# Altium schematic symbol library WR-FPC.SchLib: 258 symbols (part 2 of 6)
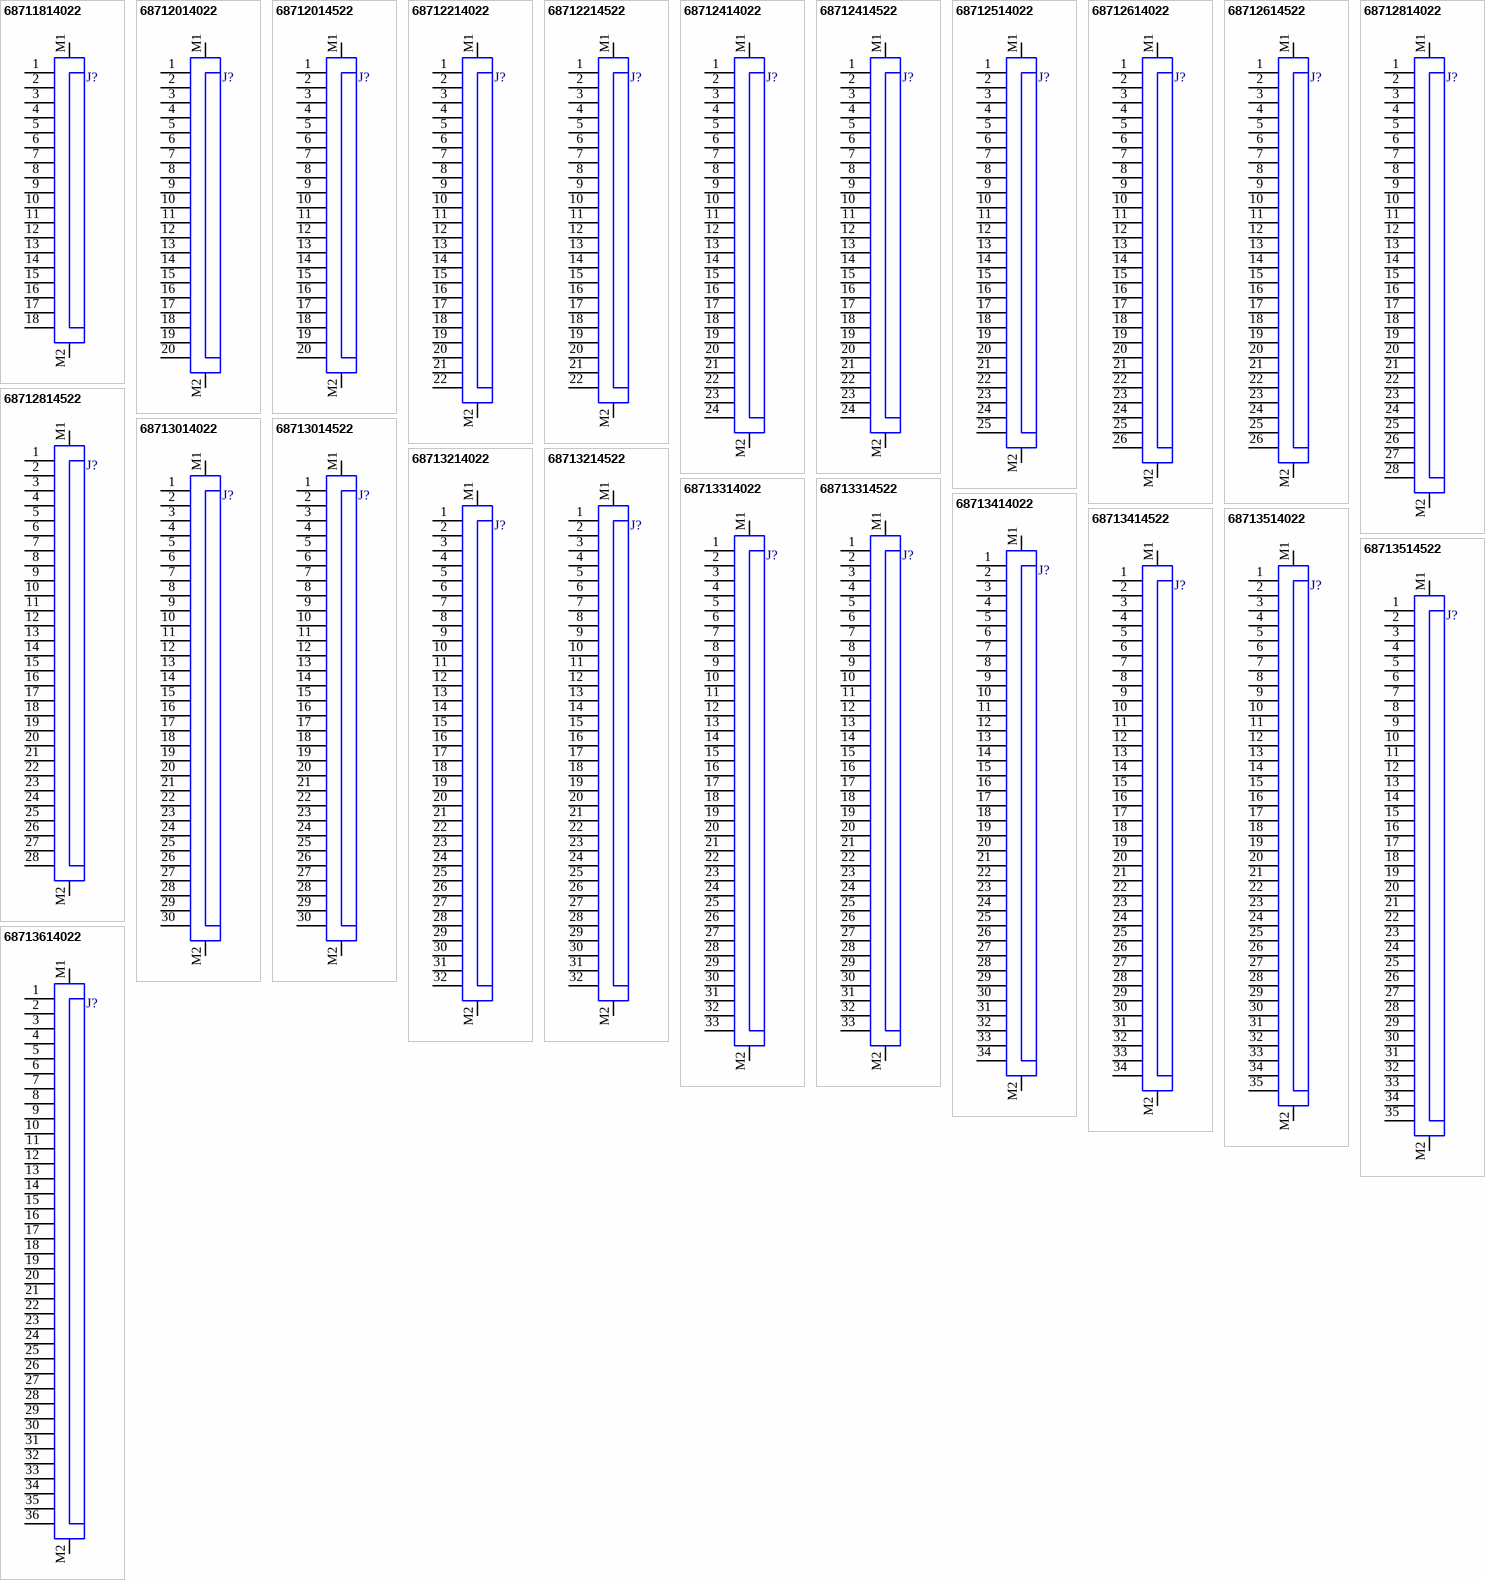
[diagram p8: symbols 68711814022 to 68713614022]

## 68712814022
designator J?  (value not drawn)
WR-FPC SMT ZIF Horizontal Top Contact, pitch 0.5mm, Horizontal, 28pins; Manufacturer: Wurth Elektronik; Contact Resistance: 20mΩ; Rated Current: 0.5A; Working Voltage: 50VAC; Withstanding Voltage: 1000VAC; ComponentLink1Description: Datasheet; ComponentLink1URL: https://www.we-online.com/redexpert/spec/68712814022?ad; Manufacturer Part Number: 68712814022; Category: FPC Connectors; Mount: Surface Mount; Operating Temperature Max: 85°C; Operating Temperature Min: -25°C; Packaging: Tape and Reel; Length: 20.4mm; Width: 5.1mm; Height: 2.1mm; Number of Pins: 28; Orientation: Horizontal; Pitch: 0.5mm; LCSC Part #: N/A; Supplier 1: Mouser; Supplier 1 Part Number: N/A; Supplier 1 URL: N/A; Supplier 2: Digi-Key; Supplier 2 Part Number: N/A; Supplier 2 URL: N/A; Supplier 3: thegioiic; Supplier 3 Part Number: N/A; Supplier 3 URL: N/A; Value: 68712814022
footprint 68712814022
pins: 1, 2, 3, 4, 5, 6, 7, 8, 9, 10, 11, 12, 13, 14, 15, 16, 17, 18, 19, 20, 21, 22, 23, 24, 25, 26, 27, 28, M1, M2

## 68712814522
designator J?  (value not drawn)
WR-FPC SMT ZIF Horizontal Bottom Contact, pitch 0.5mm, Horizontal, 28pins; Manufacturer: Wurth Elektronik; Contact Resistance: 20mΩ; Rated Current: 0.5A; Working Voltage: 50VAC; Withstanding Voltage: 1000VAC; ComponentLink1Description: Datasheet; ComponentLink1URL: https://www.we-online.com/redexpert/spec/68712814522?ad; Manufacturer Part Number: 68712814522; Category: FPC Connectors; Mount: Surface Mount; Operating Temperature Max: 85°C; Operating Temperature Min: -25°C; Packaging: Tape and Reel; Length: 20.4mm; Width: 5.1mm; Height: 2.1mm; Number of Pins: 28; Orientation: Horizontal; Pitch: 0.5mm; LCSC Part #: N/A; Supplier 1: Mouser; Supplier 1 Part Number: N/A; Supplier 1 URL: N/A; Supplier 2: Digi-Key; Supplier 2 Part Number: N/A; Supplier 2 URL: N/A; Supplier 3: thegioiic; Supplier 3 Part Number: N/A; Supplier 3 URL: N/A; Value: 68712814522
footprint 68712814522
pins: 1, 2, 3, 4, 5, 6, 7, 8, 9, 10, 11, 12, 13, 14, 15, 16, 17, 18, 19, 20, 21, 22, 23, 24, 25, 26, 27, 28, M1, M2

## 68713014022
designator J?  (value not drawn)
WR-FPC SMT ZIF Horizontal Top Contact, pitch 0.5mm, Horizontal, 30pins; Manufacturer: Wurth Elektronik; Contact Resistance: 20mΩ; Rated Current: 0.5A; Working Voltage: 50VAC; Withstanding Voltage: 1000VAC; ComponentLink1Description: Datasheet; ComponentLink1URL: https://www.we-online.com/redexpert/spec/68713014022?ad; Manufacturer Part Number: 68713014022; Category: FPC Connectors; Mount: Surface Mount; Operating Temperature Max: 85°C; Operating Temperature Min: -25°C; Packaging: Tape and Reel; Length: 21.4mm; Width: 5.1mm; Height: 2.1mm; Number of Pins: 30; Orientation: Horizontal; Pitch: 0.5mm; LCSC Part #: N/A; Supplier 1: Mouser; Supplier 1 Part Number: N/A; Supplier 1 URL: N/A; Supplier 2: Digi-Key; Supplier 2 Part Number: N/A; Supplier 2 URL: N/A; Supplier 3: thegioiic; Supplier 3 Part Number: N/A; Supplier 3 URL: N/A; Value: 68713014022
footprint 68713014022
pins: 1, 2, 3, 4, 5, 6, 7, 8, 9, 10, 11, 12, 13, 14, 15, 16, 17, 18, 19, 20, 21, 22, 23, 24, 25, 26, 27, 28, 29, 30, M1, M2

## 68713014522
designator J?  (value not drawn)
WR-FPC SMT ZIF Horizontal Bottom Contact, pitch 0.5mm, Horizontal, 30pins; Manufacturer: Wurth Elektronik; Contact Resistance: 20mΩ; Rated Current: 0.5A; Working Voltage: 50VAC; Withstanding Voltage: 1000VAC; ComponentLink1Description: Datasheet; ComponentLink1URL: https://www.we-online.com/redexpert/spec/68713014522?ad; Manufacturer Part Number: 68713014522; Category: FPC Connectors; Mount: Surface Mount; Operating Temperature Max: 85°C; Operating Temperature Min: -25°C; Packaging: Tape and Reel; Length: 21.4mm; Width: 5.1mm; Height: 2.1mm; Number of Pins: 30; Orientation: Horizontal; Pitch: 0.5mm; LCSC Part #: N/A; Supplier 1: Mouser; Supplier 1 Part Number: N/A; Supplier 1 URL: N/A; Supplier 2: Digi-Key; Supplier 2 Part Number: N/A; Supplier 2 URL: N/A; Supplier 3: thegioiic; Supplier 3 Part Number: N/A; Supplier 3 URL: N/A; Value: 68713014522
footprint 68713014522
pins: 1, 2, 3, 4, 5, 6, 7, 8, 9, 10, 11, 12, 13, 14, 15, 16, 17, 18, 19, 20, 21, 22, 23, 24, 25, 26, 27, 28, 29, 30, M1, M2

## 68713214022
designator J?  (value not drawn)
WR-FPC SMT ZIF Horizontal Top Contact, pitch 0.5mm, Horizontal, 32pins; Manufacturer: Wurth Elektronik; Contact Resistance: 20mΩ; Rated Current: 0.5A; Working Voltage: 50VAC; Withstanding Voltage: 1000VAC; ComponentLink1Description: Datasheet; ComponentLink1URL: https://www.we-online.com/redexpert/spec/68713214022?ad; Manufacturer Part Number: 68713214022; Category: FPC Connectors; Mount: Surface Mount; Operating Temperature Max: 85°C; Operating Temperature Min: -25°C; Packaging: Tape and Reel; Length: 22.4mm; Width: 5.1mm; Height: 2.1mm; Number of Pins: 32; Orientation: Horizontal; Pitch: 0.5mm; LCSC Part #: N/A; Supplier 1: Mouser; Supplier 1 Part Number: N/A; Supplier 1 URL: N/A; Supplier 2: Digi-Key; Supplier 2 Part Number: N/A; Supplier 2 URL: N/A; Supplier 3: thegioiic; Supplier 3 Part Number: N/A; Supplier 3 URL: N/A; Value: 68713214022
footprint 68713214022
pins: 1, 2, 3, 4, 5, 6, 7, 8, 9, 10, 11, 12, 13, 14, 15, 16, 17, 18, 19, 20, 21, 22, 23, 24, 25, 26, 27, 28, 29, 30, 31, 32, M1, M2

## 68713214522
designator J?  (value not drawn)
WR-FPC SMT ZIF Horizontal Bottom Contact, pitch 0.5mm, Horizontal, 32pins; Manufacturer: Wurth Elektronik; Contact Resistance: 20mΩ; Rated Current: 0.5A; Working Voltage: 50VAC; Withstanding Voltage: 1000VAC; ComponentLink1Description: Datasheet; ComponentLink1URL: https://www.we-online.com/redexpert/spec/68713214522?ad; Manufacturer Part Number: 68713214522; Category: FPC Connectors; Mount: Surface Mount; Operating Temperature Max: 85°C; Operating Temperature Min: -25°C; Packaging: Tape and Reel; Length: 22.4mm; Width: 5.1mm; Height: 2.1mm; Number of Pins: 32; Orientation: Horizontal; Pitch: 0.5mm; LCSC Part #: N/A; Supplier 1: Mouser; Supplier 1 Part Number: N/A; Supplier 1 URL: N/A; Supplier 2: Digi-Key; Supplier 2 Part Number: N/A; Supplier 2 URL: N/A; Supplier 3: thegioiic; Supplier 3 Part Number: N/A; Supplier 3 URL: N/A; Value: 68713214522
footprint 68713214522
pins: 1, 2, 3, 4, 5, 6, 7, 8, 9, 10, 11, 12, 13, 14, 15, 16, 17, 18, 19, 20, 21, 22, 23, 24, 25, 26, 27, 28, 29, 30, 31, 32, M1, M2

## 68713314022
designator J?  (value not drawn)
WR-FPC SMT ZIF Horizontal Top Contact, pitch 0.5mm, Horizontal, 33pins; Manufacturer: Wurth Elektronik; Contact Resistance: 20mΩ; Rated Current: 0.5A; Working Voltage: 50VAC; Withstanding Voltage: 1000VAC; ComponentLink1Description: Datasheet; ComponentLink1URL: https://www.we-online.com/redexpert/spec/68713314022?ad; Manufacturer Part Number: 68713314022; Category: FPC Connectors; Mount: Surface Mount; Operating Temperature Max: 85°C; Operating Temperature Min: -25°C; Packaging: Tape and Reel; Length: 22.9mm; Width: 5.1mm; Height: 2.1mm; Number of Pins: 33; Orientation: Horizontal; Pitch: 0.5mm; LCSC Part #: N/A; Supplier 1: Mouser; Supplier 1 Part Number: N/A; Supplier 1 URL: N/A; Supplier 2: Digi-Key; Supplier 2 Part Number: N/A; Supplier 2 URL: N/A; Supplier 3: thegioiic; Supplier 3 Part Number: N/A; Supplier 3 URL: N/A; Value: 68713314022
footprint 68713314022
pins: 1, 2, 3, 4, 5, 6, 7, 8, 9, 10, 11, 12, 13, 14, 15, 16, 17, 18, 19, 20, 21, 22, 23, 24, 25, 26, 27, 28, 29, 30, 31, 32, 33, M1, M2

## 68713314522
designator J?  (value not drawn)
WR-FPC SMT ZIF Horizontal Bottom Contact, pitch 0.5mm, Horizontal, 33pins; Manufacturer: Wurth Elektronik; Contact Resistance: 20mΩ; Rated Current: 0.5A; Working Voltage: 50VAC; Withstanding Voltage: 1000VAC; ComponentLink1Description: Datasheet; ComponentLink1URL: https://www.we-online.com/redexpert/spec/68713314522?ad; Manufacturer Part Number: 68713314522; Category: FPC Connectors; Mount: Surface Mount; Operating Temperature Max: 85°C; Operating Temperature Min: -25°C; Packaging: Tape and Reel; Length: 22.9mm; Width: 5.1mm; Height: 2.1mm; Number of Pins: 33; Orientation: Horizontal; Pitch: 0.5mm; LCSC Part #: N/A; Supplier 1: Mouser; Supplier 1 Part Number: N/A; Supplier 1 URL: N/A; Supplier 2: Digi-Key; Supplier 2 Part Number: N/A; Supplier 2 URL: N/A; Supplier 3: thegioiic; Supplier 3 Part Number: N/A; Supplier 3 URL: N/A; Value: 68713314522
footprint 68713314522
pins: 1, 2, 3, 4, 5, 6, 7, 8, 9, 10, 11, 12, 13, 14, 15, 16, 17, 18, 19, 20, 21, 22, 23, 24, 25, 26, 27, 28, 29, 30, 31, 32, 33, M1, M2

## 68713414022
designator J?  (value not drawn)
WR-FPC SMT ZIF Horizontal Top Contact, pitch 0.5mm, Horizontal, 34pins; Manufacturer: Wurth Elektronik; Contact Resistance: 20mΩ; Rated Current: 0.5A; Working Voltage: 50VAC; Withstanding Voltage: 1000VAC; ComponentLink1Description: Datasheet; ComponentLink1URL: https://www.we-online.com/redexpert/spec/68713414022?ad; Manufacturer Part Number: 68713414022; Category: FPC Connectors; Mount: Surface Mount; Operating Temperature Max: 85°C; Operating Temperature Min: -25°C; Packaging: Tape and Reel; Length: 23.4mm; Width: 5.1mm; Height: 2.1mm; Number of Pins: 34; Orientation: Horizontal; Pitch: 0.5mm; LCSC Part #: N/A; Supplier 1: Mouser; Supplier 1 Part Number: N/A; Supplier 1 URL: N/A; Supplier 2: Digi-Key; Supplier 2 Part Number: N/A; Supplier 2 URL: N/A; Supplier 3: thegioiic; Supplier 3 Part Number: N/A; Supplier 3 URL: N/A; Value: 68713414022
footprint 68713414022
pins: 1, 2, 3, 4, 5, 6, 7, 8, 9, 10, 11, 12, 13, 14, 15, 16, 17, 18, 19, 20, 21, 22, 23, 24, 25, 26, 27, 28, 29, 30, 31, 32, 33, 34, M1, M2

## 68713414522
designator J?  (value not drawn)
WR-FPC SMT ZIF Horizontal Bottom Contact, pitch 0.5mm, Horizontal, 34pins; Manufacturer: Wurth Elektronik; Contact Resistance: 20mΩ; Rated Current: 0.5A; Working Voltage: 50VAC; Withstanding Voltage: 1000VAC; ComponentLink1Description: Datasheet; ComponentLink1URL: https://www.we-online.com/redexpert/spec/68713414522?ad; Manufacturer Part Number: 68713414522; Category: FPC Connectors; Mount: Surface Mount; Operating Temperature Max: 85°C; Operating Temperature Min: -25°C; Packaging: Tape and Reel; Length: 23.4mm; Width: 5.1mm; Height: 2.1mm; Number of Pins: 34; Orientation: Horizontal; Pitch: 0.5mm; LCSC Part #: N/A; Supplier 1: Mouser; Supplier 1 Part Number: N/A; Supplier 1 URL: N/A; Supplier 2: Digi-Key; Supplier 2 Part Number: N/A; Supplier 2 URL: N/A; Supplier 3: thegioiic; Supplier 3 Part Number: N/A; Supplier 3 URL: N/A; Value: 68713414522
footprint 68713414522
pins: 1, 2, 3, 4, 5, 6, 7, 8, 9, 10, 11, 12, 13, 14, 15, 16, 17, 18, 19, 20, 21, 22, 23, 24, 25, 26, 27, 28, 29, 30, 31, 32, 33, 34, M1, M2

## 68713514022
designator J?  (value not drawn)
WR-FPC SMT ZIF Horizontal Top Contact, pitch 0.5mm, Horizontal, 35pins; Manufacturer: Wurth Elektronik; Contact Resistance: 20mΩ; Rated Current: 0.5A; Working Voltage: 50VAC; Withstanding Voltage: 1000VAC; ComponentLink1Description: Datasheet; ComponentLink1URL: https://www.we-online.com/redexpert/spec/68713514022?ad; Manufacturer Part Number: 68713514022; Category: FPC Connectors; Mount: Surface Mount; Operating Temperature Max: 85°C; Operating Temperature Min: -25°C; Packaging: Tape and Reel; Length: 23.9mm; Width: 5.1mm; Height: 2.1mm; Number of Pins: 35; Orientation: Horizontal; Pitch: 0.5mm; LCSC Part #: N/A; Supplier 1: Mouser; Supplier 1 Part Number: N/A; Supplier 1 URL: N/A; Supplier 2: Digi-Key; Supplier 2 Part Number: N/A; Supplier 2 URL: N/A; Supplier 3: thegioiic; Supplier 3 Part Number: N/A; Supplier 3 URL: N/A; Value: 68713514022
footprint 68713514022
pins: 1, 2, 3, 4, 5, 6, 7, 8, 9, 10, 11, 12, 13, 14, 15, 16, 17, 18, 19, 20, 21, 22, 23, 24, 25, 26, 27, 28, 29, 30, 31, 32, 33, 34, 35, M1, M2

## 68713514522
designator J?  (value not drawn)
WR-FPC SMT ZIF Horizontal Bottom Contact, pitch 0.5mm, Horizontal, 35pins; Manufacturer: Wurth Elektronik; Contact Resistance: 20mΩ; Rated Current: 0.5A; Working Voltage: 50VAC; Withstanding Voltage: 1000VAC; ComponentLink1Description: Datasheet; ComponentLink1URL: https://www.we-online.com/redexpert/spec/68713514522?ad; Manufacturer Part Number: 68713514522; Category: FPC Connectors; Mount: Surface Mount; Operating Temperature Max: 85°C; Operating Temperature Min: -25°C; Packaging: Tape and Reel; Length: 23.9mm; Width: 5.1mm; Height: 2.1mm; Number of Pins: 35; Orientation: Horizontal; Pitch: 0.5mm; LCSC Part #: N/A; Supplier 1: Mouser; Supplier 1 Part Number: N/A; Supplier 1 URL: N/A; Supplier 2: Digi-Key; Supplier 2 Part Number: N/A; Supplier 2 URL: N/A; Supplier 3: thegioiic; Supplier 3 Part Number: N/A; Supplier 3 URL: N/A; Value: 68713514522
footprint 68713514522
pins: 1, 2, 3, 4, 5, 6, 7, 8, 9, 10, 11, 12, 13, 14, 15, 16, 17, 18, 19, 20, 21, 22, 23, 24, 25, 26, 27, 28, 29, 30, 31, 32, 33, 34, 35, M1, M2

## 68713614022
designator J?  (value not drawn)
WR-FPC SMT ZIF Horizontal Top Contact, pitch 0.5mm, Horizontal, 36pins; Manufacturer: Wurth Elektronik; Contact Resistance: 20mΩ; Rated Current: 0.5A; Working Voltage: 50VAC; Withstanding Voltage: 1000VAC; ComponentLink1Description: Datasheet; ComponentLink1URL: https://www.we-online.com/redexpert/spec/68713614022?ad; Manufacturer Part Number: 68713614022; Category: FPC Connectors; Mount: Surface Mount; Operating Temperature Max: 85°C; Operating Temperature Min: -25°C; Packaging: Tape and Reel; Length: 24.4mm; Width: 5.1mm; Height: 2.1mm; Number of Pins: 36; Orientation: Horizontal; Pitch: 0.5mm; LCSC Part #: N/A; Supplier 1: Mouser; Supplier 1 Part Number: N/A; Supplier 1 URL: N/A; Supplier 2: Digi-Key; Supplier 2 Part Number: N/A; Supplier 2 URL: N/A; Supplier 3: thegioiic; Supplier 3 Part Number: N/A; Supplier 3 URL: N/A; Value: 68713614022
footprint 68713614022
pins: 1, 2, 3, 4, 5, 6, 7, 8, 9, 10, 11, 12, 13, 14, 15, 16, 17, 18, 19, 20, 21, 22, 23, 24, 25, 26, 27, 28, 29, 30, 31, 32, 33, 34, 35, 36, M1, M2

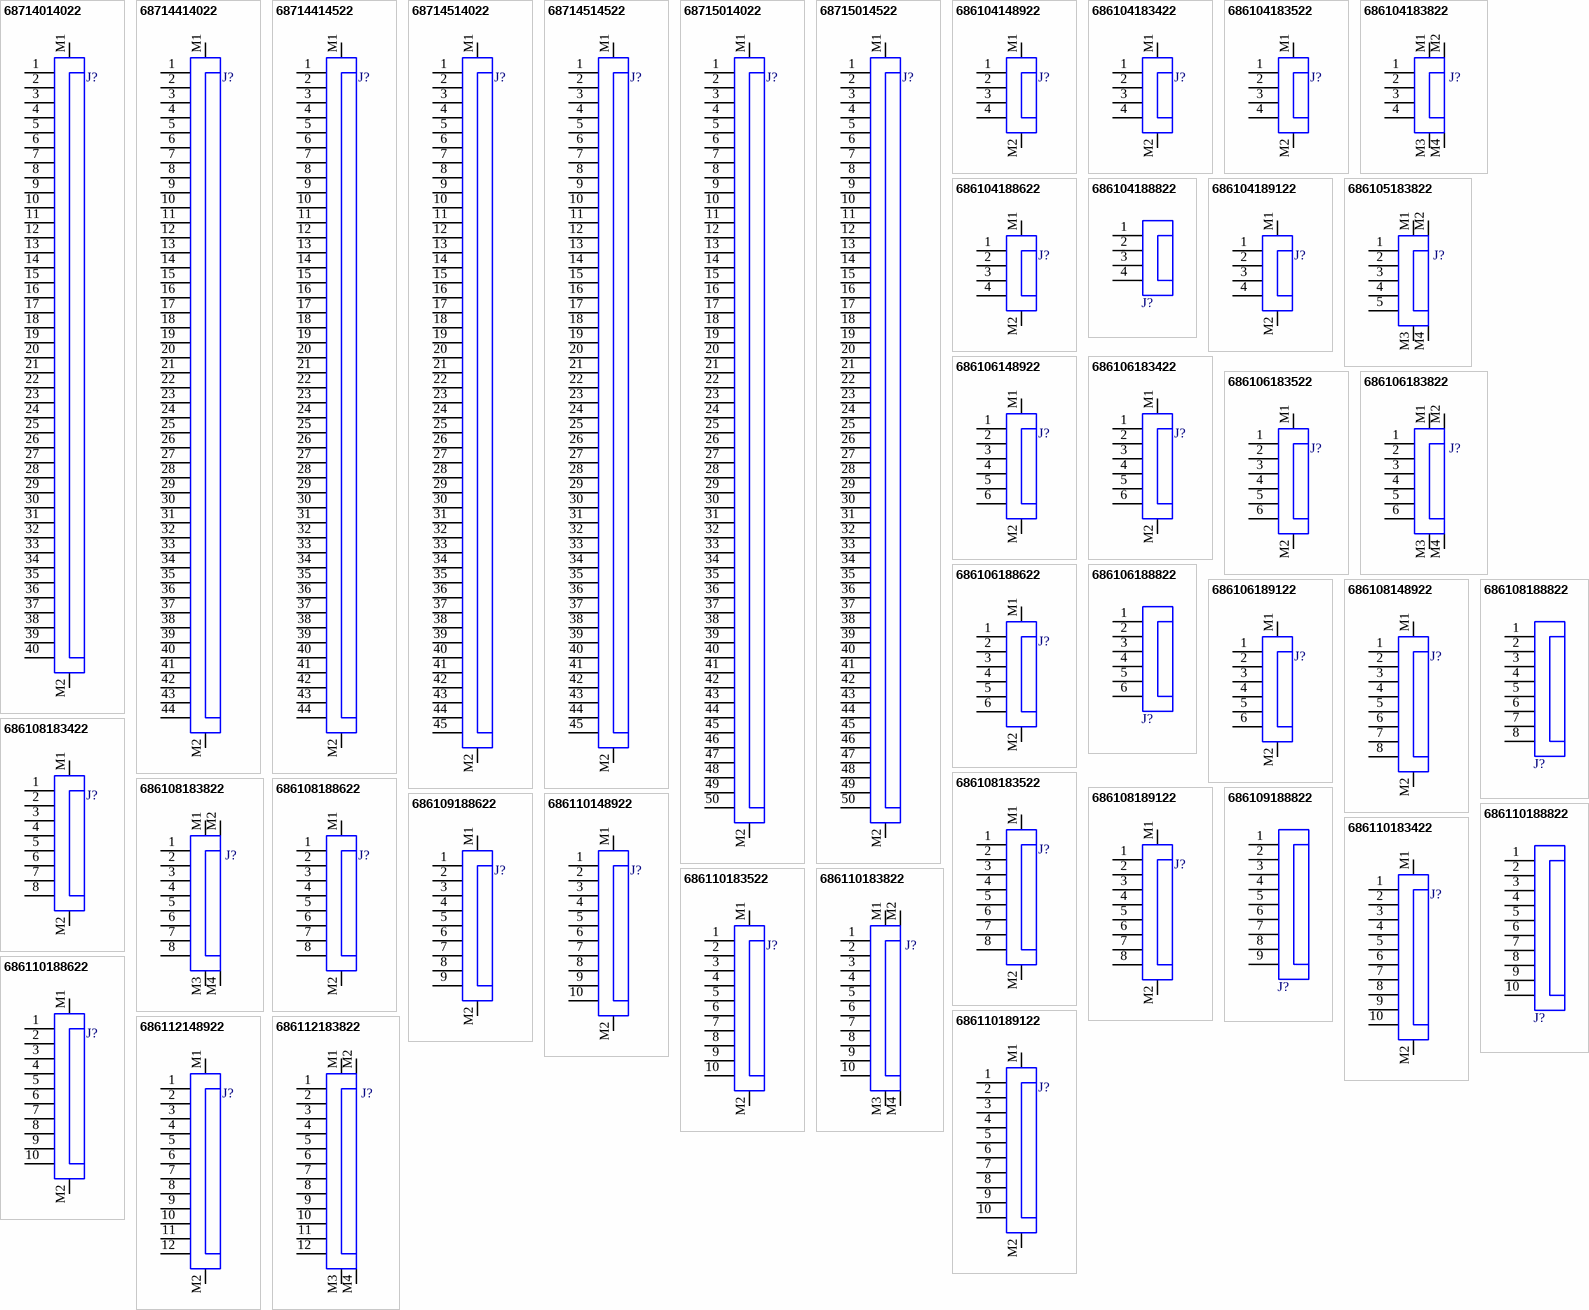
[diagram p2: symbols 68714014022 to 686112183822]

## 68714014022
designator J?  (value not drawn)
WR-FPC SMT ZIF Horizontal Top Contact, pitch 0.5mm, Horizontal, 40pins; Manufacturer: Wurth Elektronik; Contact Resistance: 20mΩ; Rated Current: 0.5A; Working Voltage: 50VAC; Withstanding Voltage: 1000VAC; ComponentLink1Description: Datasheet; ComponentLink1URL: https://www.we-online.com/redexpert/spec/68714014022?ad; Manufacturer Part Number: 68714014022; Category: FPC Connectors; Mount: Surface Mount; Operating Temperature Max: 85°C; Operating Temperature Min: -25°C; Packaging: Tape and Reel; Length: 26.4mm; Width: 5.1mm; Height: 2.1mm; Number of Pins: 40; Orientation: Horizontal; Pitch: 0.5mm; LCSC Part #: N/A; Supplier 1: Mouser; Supplier 1 Part Number: N/A; Supplier 1 URL: N/A; Supplier 2: Digi-Key; Supplier 2 Part Number: N/A; Supplier 2 URL: N/A; Supplier 3: thegioiic; Supplier 3 Part Number: N/A; Supplier 3 URL: N/A; Value: 68714014022
footprint 68714014022
pins: 1, 2, 3, 4, 5, 6, 7, 8, 9, 10, 11, 12, 13, 14, 15, 16, 17, 18, 19, 20, 21, 22, 23, 24, 25, 26, 27, 28, 29, 30, 31, 32, 33, 34, 35, 36, 37, 38, 39, 40, M1, M2

## 68714414022
designator J?  (value not drawn)
WR-FPC SMT ZIF Horizontal Top Contact, pitch 0.5mm, Horizontal, 44pins; Manufacturer: Wurth Elektronik; Contact Resistance: 20mΩ; Rated Current: 0.5A; Working Voltage: 50VAC; Withstanding Voltage: 1000VAC; ComponentLink1Description: Datasheet; ComponentLink1URL: https://www.we-online.com/redexpert/spec/68714414022?ad; Manufacturer Part Number: 68714414022; Category: FPC Connectors; Mount: Surface Mount; Operating Temperature Max: 85°C; Operating Temperature Min: -25°C; Packaging: Tape and Reel; Length: 28.4mm; Width: 5.1mm; Height: 2.1mm; Number of Pins: 44; Orientation: Horizontal; Pitch: 0.5mm; LCSC Part #: N/A; Supplier 1: Mouser; Supplier 1 Part Number: N/A; Supplier 1 URL: N/A; Supplier 2: Digi-Key; Supplier 2 Part Number: N/A; Supplier 2 URL: N/A; Supplier 3: thegioiic; Supplier 3 Part Number: N/A; Supplier 3 URL: N/A; Value: 68714414022
footprint 68714414022
pins: 1, 2, 3, 4, 5, 6, 7, 8, 9, 10, 11, 12, 13, 14, 15, 16, 17, 18, 19, 20, 21, 22, 23, 24, 25, 26, 27, 28, 29, 30, 31, 32, 33, 34, 35, 36, 37, 38, 39, 40, 41, 42, 43, 44, M1, M2

## 68714414522
designator J?  (value not drawn)
WR-FPC SMT ZIF Horizontal Bottom Contact, pitch 0.5mm, Horizontal, 44pins; Manufacturer: Wurth Elektronik; Contact Resistance: 20mΩ; Rated Current: 0.5A; Working Voltage: 50VAC; Withstanding Voltage: 1000VAC; ComponentLink1Description: Datasheet; ComponentLink1URL: https://www.we-online.com/redexpert/spec/68714414522?ad; Manufacturer Part Number: 68714414522; Category: FPC Connectors; Mount: Surface Mount; Operating Temperature Max: 85°C; Operating Temperature Min: -25°C; Packaging: Tape and Reel; Length: 28.4mm; Width: 5.1mm; Height: 2.1mm; Number of Pins: 44; Orientation: Horizontal; Pitch: 0.5mm; LCSC Part #: N/A; Supplier 1: Mouser; Supplier 1 Part Number: N/A; Supplier 1 URL: N/A; Supplier 2: Digi-Key; Supplier 2 Part Number: N/A; Supplier 2 URL: N/A; Supplier 3: thegioiic; Supplier 3 Part Number: N/A; Supplier 3 URL: N/A; Value: 68714414522
footprint 68714414522
pins: 1, 2, 3, 4, 5, 6, 7, 8, 9, 10, 11, 12, 13, 14, 15, 16, 17, 18, 19, 20, 21, 22, 23, 24, 25, 26, 27, 28, 29, 30, 31, 32, 33, 34, 35, 36, 37, 38, 39, 40, 41, 42, 43, 44, M1, M2

## 68714514022
designator J?  (value not drawn)
WR-FPC SMT ZIF Horizontal Top Contact, pitch 0.5mm, Horizontal, 45pins; Manufacturer: Wurth Elektronik; Contact Resistance: 20mΩ; Rated Current: 0.5A; Working Voltage: 50VAC; Withstanding Voltage: 1000VAC; ComponentLink1Description: Datasheet; ComponentLink1URL: https://www.we-online.com/redexpert/spec/68714514022?ad; Manufacturer Part Number: 68714514022; Category: FPC Connectors; Mount: Surface Mount; Operating Temperature Max: 85°C; Operating Temperature Min: -25°C; Packaging: Tape and Reel; Length: 28.9mm; Width: 5.1mm; Height: 2.1mm; Number of Pins: 45; Orientation: Horizontal; Pitch: 0.5mm; LCSC Part #: N/A; Supplier 1: Mouser; Supplier 1 Part Number: N/A; Supplier 1 URL: N/A; Supplier 2: Digi-Key; Supplier 2 Part Number: N/A; Supplier 2 URL: N/A; Supplier 3: thegioiic; Supplier 3 Part Number: N/A; Supplier 3 URL: N/A; Value: 68714514022
footprint 68714514022
pins: 1, 2, 3, 4, 5, 6, 7, 8, 9, 10, 11, 12, 13, 14, 15, 16, 17, 18, 19, 20, 21, 22, 23, 24, 25, 26, 27, 28, 29, 30, 31, 32, 33, 34, 35, 36, 37, 38, 39, 40, 41, 42, 43, 44, 45, M1, M2

## 68714514522
designator J?  (value not drawn)
WR-FPC SMT ZIF Horizontal Bottom Contact, pitch 0.5mm, Horizontal, 45pins; Manufacturer: Wurth Elektronik; Contact Resistance: 20mΩ; Rated Current: 0.5A; Working Voltage: 50VAC; Withstanding Voltage: 1000VAC; ComponentLink1Description: Datasheet; ComponentLink1URL: https://www.we-online.com/redexpert/spec/68714514522?ad; Manufacturer Part Number: 68714514522; Category: FPC Connectors; Mount: Surface Mount; Operating Temperature Max: 85°C; Operating Temperature Min: -25°C; Packaging: Tape and Reel; Length: 28.9mm; Width: 5.1mm; Height: 2.1mm; Number of Pins: 45; Orientation: Horizontal; Pitch: 0.5mm; LCSC Part #: N/A; Supplier 1: Mouser; Supplier 1 Part Number: N/A; Supplier 1 URL: N/A; Supplier 2: Digi-Key; Supplier 2 Part Number: N/A; Supplier 2 URL: N/A; Supplier 3: thegioiic; Supplier 3 Part Number: N/A; Supplier 3 URL: N/A; Value: 68714514522
footprint 68714514522
pins: 1, 2, 3, 4, 5, 6, 7, 8, 9, 10, 11, 12, 13, 14, 15, 16, 17, 18, 19, 20, 21, 22, 23, 24, 25, 26, 27, 28, 29, 30, 31, 32, 33, 34, 35, 36, 37, 38, 39, 40, 41, 42, 43, 44, 45, M1, M2

## 68715014022
designator J?  (value not drawn)
WR-FPC SMT ZIF Horizontal Top Contact, pitch 0.5mm, Horizontal, 50pins; Manufacturer: Wurth Elektronik; Contact Resistance: 20mΩ; Rated Current: 0.5A; Working Voltage: 50VAC; Withstanding Voltage: 1000VAC; ComponentLink1Description: Datasheet; ComponentLink1URL: https://www.we-online.com/redexpert/spec/68715014022?ad; Manufacturer Part Number: 68715014022; Category: FPC Connectors; Mount: Surface Mount; Operating Temperature Max: 85°C; Operating Temperature Min: -25°C; Packaging: Tape and Reel; Length: 31.4mm; Width: 5.1mm; Height: 2.1mm; Number of Pins: 50; Orientation: Horizontal; Pitch: 0.5mm; LCSC Part #: N/A; Supplier 1: Mouser; Supplier 1 Part Number: N/A; Supplier 1 URL: N/A; Supplier 2: Digi-Key; Supplier 2 Part Number: N/A; Supplier 2 URL: N/A; Supplier 3: thegioiic; Supplier 3 Part Number: N/A; Supplier 3 URL: N/A; Value: 68715014022
footprint 68715014022
pins: 1, 2, 3, 4, 5, 6, 7, 8, 9, 10, 11, 12, 13, 14, 15, 16, 17, 18, 19, 20, 21, 22, 23, 24, 25, 26, 27, 28, 29, 30, 31, 32, 33, 34, 35, 36, 37, 38, 39, 40, 41, 42, 43, 44, 45, 46, 47, 48, 49, 50, M1, M2

## 68715014522
designator J?  (value not drawn)
WR-FPC SMT ZIF Horizontal Bottom Contact, pitch 0.5mm, Horizontal, 50pins; Manufacturer: Wurth Elektronik; Contact Resistance: 20mΩ; Rated Current: 0.5A; Working Voltage: 50VAC; Withstanding Voltage: 1000VAC; ComponentLink1Description: Datasheet; ComponentLink1URL: https://www.we-online.com/redexpert/spec/68715014522?ad; Manufacturer Part Number: 68715014522; Category: FPC Connectors; Mount: Surface Mount; Operating Temperature Max: 85°C; Operating Temperature Min: -25°C; Packaging: Tape and Reel; Length: 31.4mm; Width: 5.1mm; Height: 2.1mm; Number of Pins: 50; Orientation: Horizontal; Pitch: 0.5mm; LCSC Part #: N/A; Supplier 1: Mouser; Supplier 1 Part Number: N/A; Supplier 1 URL: N/A; Supplier 2: Digi-Key; Supplier 2 Part Number: N/A; Supplier 2 URL: N/A; Supplier 3: thegioiic; Supplier 3 Part Number: N/A; Supplier 3 URL: N/A; Value: 68715014522
footprint 68715014522
pins: 1, 2, 3, 4, 5, 6, 7, 8, 9, 10, 11, 12, 13, 14, 15, 16, 17, 18, 19, 20, 21, 22, 23, 24, 25, 26, 27, 28, 29, 30, 31, 32, 33, 34, 35, 36, 37, 38, 39, 40, 41, 42, 43, 44, 45, 46, 47, 48, 49, 50, M1, M2

## 686104148922
designator J?  (value not drawn)
WR-FPC SMT ZIF Horizontal Bottom Contact Hinge Type, pitch 1mm, Horizontal, 4pins; Manufacturer: Wurth Elektronik; Contact Resistance: 50mΩ; Rated Current: 1A; Working Voltage: 100VAC; Withstanding Voltage: 1000VAC; ComponentLink1Description: Datasheet; ComponentLink1URL: https://www.we-online.com/redexpert/spec/686104148922?ad; Manufacturer Part Number: 686104148922; Category: FPC Connectors; Mount: Surface Mount; Operating Temperature Max: 105°C; Operating Temperature Min: -40°C; Packaging: Tape and Reel; Length: 8.6mm; Width: 6.5mm; Height: 2.2mm; Number of Pins: 4; Orientation: Horizontal; Pitch: 1mm; LCSC Part #: N/A; Supplier 1: Mouser; Supplier 1 Part Number: N/A; Supplier 1 URL: N/A; Supplier 2: Digi-Key; Supplier 2 Part Number: N/A; Supplier 2 URL: N/A; Supplier 3: thegioiic; Supplier 3 Part Number: N/A; Supplier 3 URL: N/A; Value: 686104148922
footprint 686104148922
pins: 1, 2, 3, 4, M1, M2

## 686104183422
designator J?  (value not drawn)
WR-FPC SMT ZIF Horizontal Top Contact Low Profile, pitch 1mm, Horizontal, 4pins; Manufacturer: Wurth Elektronik; Contact Resistance: 30mΩ; Rated Current: 0.8A; Working Voltage: 50VAC; Withstanding Voltage: 1000VAC; ComponentLink1Description: Datasheet; ComponentLink1URL: https://www.we-online.com/redexpert/spec/686104183422?ad; Manufacturer Part Number: 686104183422; Category: FPC Connectors; Mount: Surface Mount; Operating Temperature Max: 85°C; Operating Temperature Min: -25°C; Packaging: Tape and Reel; Length: 10.2mm; Width: 4.25mm; Height: 1.2mm; Number of Pins: 4; Orientation: Horizontal; Pitch: 1mm; LCSC Part #: N/A; Supplier 1: Mouser; Supplier 1 Part Number: N/A; Supplier 1 URL: N/A; Supplier 2: Digi-Key; Supplier 2 Part Number: N/A; Supplier 2 URL: N/A; Supplier 3: thegioiic; Supplier 3 Part Number: N/A; Supplier 3 URL: N/A; Value: 686104183422
footprint 686104183422
pins: 1, 2, 3, 4, M1, M2

## 686104183522
designator J?  (value not drawn)
WR-FPC SMT ZIF Horizontal Bottom Contact Low Profile, pitch 1mm, Horizontal, 4pins; Manufacturer: Wurth Elektronik; Contact Resistance: 30mΩ; Rated Current: 0.8A; Working Voltage: 50VAC; Withstanding Voltage: 1000VAC; ComponentLink1Description: Datasheet; ComponentLink1URL: https://www.we-online.com/redexpert/spec/686104183522?ad; Manufacturer Part Number: 686104183522; Category: FPC Connectors; Mount: Surface Mount; Operating Temperature Max: 85°C; Operating Temperature Min: -25°C; Packaging: Tape and Reel; Length: 10.2mm; Width: 4.25mm; Height: 1.2mm; Number of Pins: 4; Orientation: Horizontal; Pitch: 1mm; LCSC Part #: N/A; Supplier 1: Mouser; Supplier 1 Part Number: N/A; Supplier 1 URL: N/A; Supplier 2: Digi-Key; Supplier 2 Part Number: N/A; Supplier 2 URL: N/A; Supplier 3: thegioiic; Supplier 3 Part Number: N/A; Supplier 3 URL: N/A; Value: 686104183522
footprint 686104183522
pins: 1, 2, 3, 4, M1, M2

## 686104183822
designator J?  (value not drawn)
WR-FPC SMT ZIF Vertical Type A, pitch 1mm, Vertical, 4pins; Manufacturer: Wurth Elektronik; Contact Resistance: 30mΩ; Rated Current: 1A; Working Voltage: 125VAC; Withstanding Voltage: 1000VAC; ComponentLink1Description: Datasheet; ComponentLink1URL: https://www.we-online.com/redexpert/spec/686104183822?ad; Manufacturer Part Number: 686104183822; Category: FPC Connectors; Mount: Surface Mount; Operating Temperature Max: 85°C; Operating Temperature Min: -25°C; Packaging: Tape and Reel; Length: 10.8mm; Width: 3.3mm; Height: 3.25mm; Number of Pins: 4; Orientation: Vertical; Pitch: 1mm; LCSC Part #: N/A; Supplier 1: Mouser; Supplier 1 Part Number: N/A; Supplier 1 URL: N/A; Supplier 2: Digi-Key; Supplier 2 Part Number: N/A; Supplier 2 URL: N/A; Supplier 3: thegioiic; Supplier 3 Part Number: N/A; Supplier 3 URL: N/A; Value: 686104183822
footprint 686104183822
pins: 1, 2, 3, 4, M1, M2, M3, M4

## 686104188622
designator J?  (value not drawn)
WR-FPC SMT LIF Horizontal Top Contact, pitch 1mm, Horizontal, 4pins; Manufacturer: Wurth Elektronik; Contact Resistance: 30mΩ; Rated Current: 1A; Working Voltage: 125VAC; Withstanding Voltage: 1000VAC; ComponentLink1Description: Datasheet; ComponentLink1URL: https://www.we-online.com/redexpert/spec/686104188622?ad; Manufacturer Part Number: 686104188622; Category: FPC Connectors; Mount: Surface Mount; Operating Temperature Max: 85°C; Operating Temperature Min: -25°C; Packaging: Tape and Reel; Length: 7.8mm; Width: 6.8mm; Height: 3.1mm; Number of Pins: 4; Orientation: Horizontal; Pitch: 1mm; LCSC Part #: N/A; Supplier 1: Mouser; Supplier 1 Part Number: N/A; Supplier 1 URL: N/A; Supplier 2: Digi-Key; Supplier 2 Part Number: N/A; Supplier 2 URL: N/A; Supplier 3: thegioiic; Supplier 3 Part Number: N/A; Supplier 3 URL: N/A; Value: 686104188622
footprint 686104188622
pins: 1, 2, 3, 4, M1, M2

## 686104188822
designator J?  (value not drawn)
WR-FPC SMT LIF Vertical Type A, pitch 1mm, Vertical, 4pins; Manufacturer: Wurth Elektronik; Contact Resistance: 30mΩ; Rated Current: 1A; Working Voltage: 125VAC; Withstanding Voltage: 1000VAC; ComponentLink1Description: Datasheet; ComponentLink1URL: https://www.we-online.com/redexpert/spec/686104188822?ad; Manufacturer Part Number: 686104188822; Category: FPC Connectors; Mount: Surface Mount; Operating Temperature Max: 85°C; Operating Temperature Min: -25°C; Packaging: Tape and Reel; Length: 7mm; Width: 4.4mm; Height: 5.1mm; Number of Pins: 4; Orientation: Vertical; Pitch: 1mm; LCSC Part #: N/A; Supplier 1: Mouser; Supplier 1 Part Number: N/A; Supplier 1 URL: N/A; Supplier 2: Digi-Key; Supplier 2 Part Number: N/A; Supplier 2 URL: N/A; Supplier 3: thegioiic; Supplier 3 Part Number: N/A; Supplier 3 URL: N/A; Value: 686104188822
footprint 686104188822
pins: 1, 2, 3, 4

## 686104189122
designator J?  (value not drawn)
WR-FPC SMT ZIF Horizontal Back Locking Dual Contact, pitch 1mm, Horizontal, 4pins; Manufacturer: Wurth Elektronik; Contact Resistance: 30mΩ; Rated Current: 0.5A; Working Voltage: 50VAC; Withstanding Voltage: 1000VAC; ComponentLink1Description: Datasheet; ComponentLink1URL: https://www.we-online.com/redexpert/spec/686104189122?ad; Manufacturer Part Number: 686104189122; Category: FPC Connectors; Mount: Surface Mount; Operating Temperature Max: 85°C; Operating Temperature Min: -55°C; Packaging: Tape and Reel; Length: 6.5mm; Width: 2.88mm; Height: 0.96mm; Number of Pins: 4; Orientation: Horizontal; Pitch: 1mm; LCSC Part #: N/A; Supplier 1: Mouser; Supplier 1 Part Number: N/A; Supplier 1 URL: N/A; Supplier 2: Digi-Key; Supplier 2 Part Number: N/A; Supplier 2 URL: N/A; Supplier 3: thegioiic; Supplier 3 Part Number: N/A; Supplier 3 URL: N/A; Value: 686104189122
footprint 686104189122
pins: 1, 2, 3, 4, M1, M2

## 686105183822
designator J?  (value not drawn)
WR-FPC SMT ZIF Vertical Type A, pitch 1mm, Vertical, 5pins; Manufacturer: Wurth Elektronik; Contact Resistance: 30mΩ; Rated Current: 1A; Working Voltage: 125VAC; Withstanding Voltage: 1000VAC; ComponentLink1Description: Datasheet; ComponentLink1URL: https://www.we-online.com/redexpert/spec/686105183822?ad; Manufacturer Part Number: 686105183822; Category: FPC Connectors; Mount: Surface Mount; Operating Temperature Max: 85°C; Operating Temperature Min: -25°C; Packaging: Tape and Reel; Length: 11.8mm; Width: 3.3mm; Height: 3.25mm; Number of Pins: 5; Orientation: Vertical; Pitch: 1mm; LCSC Part #: N/A; Supplier 1: Mouser; Supplier 1 Part Number: N/A; Supplier 1 URL: N/A; Supplier 2: Digi-Key; Supplier 2 Part Number: N/A; Supplier 2 URL: N/A; Supplier 3: thegioiic; Supplier 3 Part Number: N/A; Supplier 3 URL: N/A; Value: 686105183822
footprint 686105183822
pins: 1, 2, 3, 4, 5, M1, M2, M3, M4

## 686106148922
designator J?  (value not drawn)
WR-FPC SMT ZIF Horizontal Bottom Contact Hinge Type, pitch 1mm, Horizontal, 6pins; Manufacturer: Wurth Elektronik; Contact Resistance: 50mΩ; Rated Current: 1A; Working Voltage: 100VAC; Withstanding Voltage: 1000VAC; ComponentLink1Description: Datasheet; ComponentLink1URL: https://www.we-online.com/redexpert/spec/686106148922?ad; Manufacturer Part Number: 686106148922; Category: FPC Connectors; Mount: Surface Mount; Operating Temperature Max: 105°C; Operating Temperature Min: -40°C; Packaging: Tape and Reel; Length: 10.6mm; Width: 6.5mm; Height: 2.2mm; Number of Pins: 6; Orientation: Horizontal; Pitch: 1mm; LCSC Part #: N/A; Supplier 1: Mouser; Supplier 1 Part Number: N/A; Supplier 1 URL: N/A; Supplier 2: Digi-Key; Supplier 2 Part Number: N/A; Supplier 2 URL: N/A; Supplier 3: thegioiic; Supplier 3 Part Number: N/A; Supplier 3 URL: N/A; Value: 686106148922
footprint 686106148922
pins: 1, 2, 3, 4, 5, 6, M1, M2

## 686106183422
designator J?  (value not drawn)
WR-FPC SMT ZIF Horizontal Top Contact Low Profile, pitch 1mm, Horizontal, 6pins; Manufacturer: Wurth Elektronik; Contact Resistance: 30mΩ; Rated Current: 0.8A; Working Voltage: 50VAC; Withstanding Voltage: 1000VAC; ComponentLink1Description: Datasheet; ComponentLink1URL: https://www.we-online.com/redexpert/spec/686106183422?ad; Manufacturer Part Number: 686106183422; Category: FPC Connectors; Mount: Surface Mount; Operating Temperature Max: 85°C; Operating Temperature Min: -25°C; Packaging: Tape and Reel; Length: 12.2mm; Width: 4.25mm; Height: 1.2mm; Number of Pins: 6; Orientation: Horizontal; Pitch: 1mm; LCSC Part #: N/A; Supplier 1: Mouser; Supplier 1 Part Number: N/A; Supplier 1 URL: N/A; Supplier 2: Digi-Key; Supplier 2 Part Number: N/A; Supplier 2 URL: N/A; Supplier 3: thegioiic; Supplier 3 Part Number: N/A; Supplier 3 URL: N/A; Value: 686106183422
footprint 686106183422
pins: 1, 2, 3, 4, 5, 6, M1, M2

## 686106183522
designator J?  (value not drawn)
WR-FPC SMT ZIF Horizontal Bottom Contact Low Profile, pitch 1mm, Horizontal, 6pins; Manufacturer: Wurth Elektronik; Contact Resistance: 30mΩ; Rated Current: 0.8A; Working Voltage: 50VAC; Withstanding Voltage: 1000VAC; ComponentLink1Description: Datasheet; ComponentLink1URL: https://www.we-online.com/redexpert/spec/686106183522?ad; Manufacturer Part Number: 686106183522; Category: FPC Connectors; Mount: Surface Mount; Operating Temperature Max: 85°C; Operating Temperature Min: -25°C; Packaging: Tape and Reel; Length: 12.2mm; Width: 4.25mm; Height: 1.2mm; Number of Pins: 6; Orientation: Horizontal; Pitch: 1mm; LCSC Part #: N/A; Supplier 1: Mouser; Supplier 1 Part Number: N/A; Supplier 1 URL: N/A; Supplier 2: Digi-Key; Supplier 2 Part Number: N/A; Supplier 2 URL: N/A; Supplier 3: thegioiic; Supplier 3 Part Number: N/A; Supplier 3 URL: N/A; Value: 686106183522
footprint 686106183522
pins: 1, 2, 3, 4, 5, 6, M1, M2

## 686106183822
designator J?  (value not drawn)
WR-FPC SMT ZIF Vertical Type A, pitch 1mm, Vertical, 6pins; Manufacturer: Wurth Elektronik; Contact Resistance: 30mΩ; Rated Current: 1A; Working Voltage: 125VAC; Withstanding Voltage: 1000VAC; ComponentLink1Description: Datasheet; ComponentLink1URL: https://www.we-online.com/redexpert/spec/686106183822?ad; Manufacturer Part Number: 686106183822; Category: FPC Connectors; Mount: Surface Mount; Operating Temperature Max: 85°C; Operating Temperature Min: -25°C; Packaging: Tape and Reel; Length: 12.8mm; Width: 3.3mm; Height: 3.25mm; Number of Pins: 6; Orientation: Vertical; Pitch: 1mm; LCSC Part #: N/A; Supplier 1: Mouser; Supplier 1 Part Number: N/A; Supplier 1 URL: N/A; Supplier 2: Digi-Key; Supplier 2 Part Number: N/A; Supplier 2 URL: N/A; Supplier 3: thegioiic; Supplier 3 Part Number: N/A; Supplier 3 URL: N/A; Value: 686106183822
footprint 686106183822
pins: 1, 2, 3, 4, 5, 6, M1, M2, M3, M4

## 686106188622
designator J?  (value not drawn)
WR-FPC SMT LIF Horizontal Top Contact, pitch 1mm, Horizontal, 6pins; Manufacturer: Wurth Elektronik; Contact Resistance: 30mΩ; Rated Current: 1A; Working Voltage: 125VAC; Withstanding Voltage: 1000VAC; ComponentLink1Description: Datasheet; ComponentLink1URL: https://www.we-online.com/redexpert/spec/686106188622?ad; Manufacturer Part Number: 686106188622; Category: FPC Connectors; Mount: Surface Mount; Operating Temperature Max: 85°C; Operating Temperature Min: -25°C; Packaging: Tape and Reel; Length: 9.8mm; Width: 6.8mm; Height: 3.1mm; Number of Pins: 6; Orientation: Horizontal; Pitch: 1mm; LCSC Part #: N/A; Supplier 1: Mouser; Supplier 1 Part Number: N/A; Supplier 1 URL: N/A; Supplier 2: Digi-Key; Supplier 2 Part Number: N/A; Supplier 2 URL: N/A; Supplier 3: thegioiic; Supplier 3 Part Number: N/A; Supplier 3 URL: N/A; Value: 686106188622
footprint 686106188622
pins: 1, 2, 3, 4, 5, 6, M1, M2

## 686106188822
designator J?  (value not drawn)
WR-FPC SMT LIF Vertical Type A, pitch 1mm, Vertical, 6pins; Manufacturer: Wurth Elektronik; Contact Resistance: 30mΩ; Rated Current: 1A; Working Voltage: 125VAC; Withstanding Voltage: 1000VAC; ComponentLink1Description: Datasheet; ComponentLink1URL: https://www.we-online.com/redexpert/spec/686106188822?ad; Manufacturer Part Number: 686106188822; Category: FPC Connectors; Mount: Surface Mount; Operating Temperature Max: 85°C; Operating Temperature Min: -25°C; Packaging: Tape and Reel; Length: 9mm; Width: 4.4mm; Height: 5.1mm; Number of Pins: 6; Orientation: Vertical; Pitch: 1mm; LCSC Part #: N/A; Supplier 1: Mouser; Supplier 1 Part Number: N/A; Supplier 1 URL: N/A; Supplier 2: Digi-Key; Supplier 2 Part Number: N/A; Supplier 2 URL: N/A; Supplier 3: thegioiic; Supplier 3 Part Number: N/A; Supplier 3 URL: N/A; Value: 686106188822
footprint 686106188822
pins: 1, 2, 3, 4, 5, 6

## 686106189122
designator J?  (value not drawn)
WR-FPC SMT ZIF Horizontal Back Locking Dual Contact, pitch 1mm, Horizontal, 6pins; Manufacturer: Wurth Elektronik; Contact Resistance: 30mΩ; Rated Current: 0.5A; Working Voltage: 50VAC; Withstanding Voltage: 1000VAC; ComponentLink1Description: Datasheet; ComponentLink1URL: https://www.we-online.com/redexpert/spec/686106189122?ad; Manufacturer Part Number: 686106189122; Category: FPC Connectors; Mount: Surface Mount; Operating Temperature Max: 85°C; Operating Temperature Min: -55°C; Packaging: Tape and Reel; Length: 8.5mm; Width: 2.88mm; Height: 0.96mm; Number of Pins: 6; Orientation: Horizontal; Pitch: 1mm; LCSC Part #: N/A; Supplier 1: Mouser; Supplier 1 Part Number: N/A; Supplier 1 URL: N/A; Supplier 2: Digi-Key; Supplier 2 Part Number: N/A; Supplier 2 URL: N/A; Supplier 3: thegioiic; Supplier 3 Part Number: N/A; Supplier 3 URL: N/A; Value: 686106189122
footprint 686106189122
pins: 1, 2, 3, 4, 5, 6, M1, M2

## 686108148922
designator J?  (value not drawn)
WR-FPC SMT ZIF Horizontal Bottom Contact Hinge Type, pitch 1mm, Horizontal, 8pins; Manufacturer: Wurth Elektronik; Contact Resistance: 50mΩ; Rated Current: 1A; Working Voltage: 100VAC; Withstanding Voltage: 1000VAC; ComponentLink1Description: Datasheet; ComponentLink1URL: https://www.we-online.com/redexpert/spec/686108148922?ad; Manufacturer Part Number: 686108148922; Category: FPC Connectors; Mount: Surface Mount; Operating Temperature Max: 105°C; Operating Temperature Min: -40°C; Packaging: Tape and Reel; Length: 12.6mm; Width: 6.5mm; Height: 2.2mm; Number of Pins: 8; Orientation: Horizontal; Pitch: 1mm; LCSC Part #: N/A; Supplier 1: Mouser; Supplier 1 Part Number: N/A; Supplier 1 URL: N/A; Supplier 2: Digi-Key; Supplier 2 Part Number: N/A; Supplier 2 URL: N/A; Supplier 3: thegioiic; Supplier 3 Part Number: N/A; Supplier 3 URL: N/A; Value: 686108148922
footprint 686108148922
pins: 1, 2, 3, 4, 5, 6, 7, 8, M1, M2

## 686108183422
designator J?  (value not drawn)
WR-FPC SMT ZIF Horizontal Top Contact Low Profile, pitch 1mm, Horizontal, 8pins; Manufacturer: Wurth Elektronik; Contact Resistance: 30mΩ; Rated Current: 0.8A; Working Voltage: 50VAC; Withstanding Voltage: 1000VAC; ComponentLink1Description: Datasheet; ComponentLink1URL: https://www.we-online.com/redexpert/spec/686108183422?ad; Manufacturer Part Number: 686108183422; Category: FPC Connectors; Mount: Surface Mount; Operating Temperature Max: 85°C; Operating Temperature Min: -25°C; Packaging: Tape and Reel; Length: 14.2mm; Width: 4.25mm; Height: 1.2mm; Number of Pins: 8; Orientation: Horizontal; Pitch: 1mm; LCSC Part #: N/A; Supplier 1: Mouser; Supplier 1 Part Number: N/A; Supplier 1 URL: N/A; Supplier 2: Digi-Key; Supplier 2 Part Number: N/A; Supplier 2 URL: N/A; Supplier 3: thegioiic; Supplier 3 Part Number: N/A; Supplier 3 URL: N/A; Value: 686108183422
footprint 686108183422
pins: 1, 2, 3, 4, 5, 6, 7, 8, M1, M2

## 686108183522
designator J?  (value not drawn)
WR-FPC SMT ZIF Horizontal Bottom Contact Low Profile, pitch 1mm, Horizontal, 8pins; Manufacturer: Wurth Elektronik; Contact Resistance: 30mΩ; Rated Current: 0.8A; Working Voltage: 50VAC; Withstanding Voltage: 1000VAC; ComponentLink1Description: Datasheet; ComponentLink1URL: https://www.we-online.com/redexpert/spec/686108183522?ad; Manufacturer Part Number: 686108183522; Category: FPC Connectors; Mount: Surface Mount; Operating Temperature Max: 85°C; Operating Temperature Min: -25°C; Packaging: Tape and Reel; Length: 14.2mm; Width: 4.25mm; Height: 1.2mm; Number of Pins: 8; Orientation: Horizontal; Pitch: 1mm; LCSC Part #: N/A; Supplier 1: Mouser; Supplier 1 Part Number: N/A; Supplier 1 URL: N/A; Supplier 2: Digi-Key; Supplier 2 Part Number: N/A; Supplier 2 URL: N/A; Supplier 3: thegioiic; Supplier 3 Part Number: N/A; Supplier 3 URL: N/A; Value: 686108183522
footprint 686108183522
pins: 1, 2, 3, 4, 5, 6, 7, 8, M1, M2

## 686108183822
designator J?  (value not drawn)
WR-FPC SMT ZIF Vertical Type A, pitch 1mm, Vertical, 8pins; Manufacturer: Wurth Elektronik; Contact Resistance: 30mΩ; Rated Current: 1A; Working Voltage: 125VAC; Withstanding Voltage: 1000VAC; ComponentLink1Description: Datasheet; ComponentLink1URL: https://www.we-online.com/redexpert/spec/686108183822?ad; Manufacturer Part Number: 686108183822; Category: FPC Connectors; Mount: Surface Mount; Operating Temperature Max: 85°C; Operating Temperature Min: -25°C; Packaging: Tape and Reel; Length: 14.8mm; Width: 3.3mm; Height: 3.25mm; Number of Pins: 8; Orientation: Vertical; Pitch: 1mm; LCSC Part #: N/A; Supplier 1: Mouser; Supplier 1 Part Number: N/A; Supplier 1 URL: N/A; Supplier 2: Digi-Key; Supplier 2 Part Number: N/A; Supplier 2 URL: N/A; Supplier 3: thegioiic; Supplier 3 Part Number: N/A; Supplier 3 URL: N/A; Value: 686108183822
footprint 686108183822
pins: 1, 2, 3, 4, 5, 6, 7, 8, M1, M2, M3, M4

## 686108188622
designator J?  (value not drawn)
WR-FPC SMT LIF Horizontal Top Contact, pitch 1mm, Horizontal, 8pins; Manufacturer: Wurth Elektronik; Contact Resistance: 30mΩ; Rated Current: 1A; Working Voltage: 125VAC; Withstanding Voltage: 1000VAC; ComponentLink1Description: Datasheet; ComponentLink1URL: https://www.we-online.com/redexpert/spec/686108188622?ad; Manufacturer Part Number: 686108188622; Category: FPC Connectors; Mount: Surface Mount; Operating Temperature Max: 85°C; Operating Temperature Min: -25°C; Packaging: Tape and Reel; Length: 11.8mm; Width: 6.8mm; Height: 3.1mm; Number of Pins: 8; Orientation: Horizontal; Pitch: 1mm; LCSC Part #: N/A; Supplier 1: Mouser; Supplier 1 Part Number: N/A; Supplier 1 URL: N/A; Supplier 2: Digi-Key; Supplier 2 Part Number: N/A; Supplier 2 URL: N/A; Supplier 3: thegioiic; Supplier 3 Part Number: N/A; Supplier 3 URL: N/A; Value: 686108188622
footprint 686108188622
pins: 1, 2, 3, 4, 5, 6, 7, 8, M1, M2

## 686108188822
designator J?  (value not drawn)
WR-FPC SMT LIF Vertical Type A, pitch 1mm, Vertical, 8pins; Manufacturer: Wurth Elektronik; Contact Resistance: 30mΩ; Rated Current: 1A; Working Voltage: 125VAC; Withstanding Voltage: 1000VAC; ComponentLink1Description: Datasheet; ComponentLink1URL: https://www.we-online.com/redexpert/spec/686108188822?ad; Manufacturer Part Number: 686108188822; Category: FPC Connectors; Mount: Surface Mount; Operating Temperature Max: 85°C; Operating Temperature Min: -25°C; Packaging: Tape and Reel; Length: 11mm; Width: 4.4mm; Height: 5.1mm; Number of Pins: 8; Orientation: Vertical; Pitch: 1mm; LCSC Part #: N/A; Supplier 1: Mouser; Supplier 1 Part Number: N/A; Supplier 1 URL: N/A; Supplier 2: Digi-Key; Supplier 2 Part Number: N/A; Supplier 2 URL: N/A; Supplier 3: thegioiic; Supplier 3 Part Number: N/A; Supplier 3 URL: N/A; Value: 686108188822
footprint 686108188822
pins: 1, 2, 3, 4, 5, 6, 7, 8

## 686108189122
designator J?  (value not drawn)
WR-FPC SMT ZIF Horizontal Back Locking Dual Contact, pitch 1mm, Horizontal, 8pins; Manufacturer: Wurth Elektronik; Contact Resistance: 30mΩ; Rated Current: 0.5A; Working Voltage: 50VAC; Withstanding Voltage: 1000VAC; ComponentLink1Description: Datasheet; ComponentLink1URL: https://www.we-online.com/redexpert/spec/686108189122?ad; Manufacturer Part Number: 686108189122; Category: FPC Connectors; Mount: Surface Mount; Operating Temperature Max: 85°C; Operating Temperature Min: -55°C; Packaging: Tape and Reel; Length: 10.5mm; Width: 2.88mm; Height: 0.96mm; Number of Pins: 8; Orientation: Horizontal; Pitch: 1mm; LCSC Part #: N/A; Supplier 1: Mouser; Supplier 1 Part Number: N/A; Supplier 1 URL: N/A; Supplier 2: Digi-Key; Supplier 2 Part Number: N/A; Supplier 2 URL: N/A; Supplier 3: thegioiic; Supplier 3 Part Number: N/A; Supplier 3 URL: N/A; Value: 686108189122
footprint 686108189122
pins: 1, 2, 3, 4, 5, 6, 7, 8, M1, M2

## 686109188622
designator J?  (value not drawn)
WR-FPC SMT LIF Horizontal Top Contact, pitch 1mm, Horizontal, 9pins; Manufacturer: Wurth Elektronik; Contact Resistance: 30mΩ; Rated Current: 1A; Working Voltage: 125VAC; Withstanding Voltage: 1000VAC; ComponentLink1Description: Datasheet; ComponentLink1URL: https://www.we-online.com/redexpert/spec/686109188622?ad; Manufacturer Part Number: 686109188622; Category: FPC Connectors; Mount: Surface Mount; Operating Temperature Max: 85°C; Operating Temperature Min: -25°C; Packaging: Tape and Reel; Length: 12.8mm; Width: 6.8mm; Height: 3.1mm; Number of Pins: 9; Orientation: Horizontal; Pitch: 1mm; LCSC Part #: N/A; Supplier 1: Mouser; Supplier 1 Part Number: N/A; Supplier 1 URL: N/A; Supplier 2: Digi-Key; Supplier 2 Part Number: N/A; Supplier 2 URL: N/A; Supplier 3: thegioiic; Supplier 3 Part Number: N/A; Supplier 3 URL: N/A; Value: 686109188622
footprint 686109188622
pins: 1, 2, 3, 4, 5, 6, 7, 8, 9, M1, M2

## 686109188822
designator J?  (value not drawn)
WR-FPC SMT LIF Vertical Type A, pitch 1mm, Vertical, 9pins; Manufacturer: Wurth Elektronik; Contact Resistance: 30mΩ; Rated Current: 1A; Working Voltage: 125VAC; Withstanding Voltage: 1000VAC; ComponentLink1Description: Datasheet; ComponentLink1URL: https://www.we-online.com/redexpert/spec/686109188822?ad; Manufacturer Part Number: 686109188822; Category: FPC Connectors; Mount: Surface Mount; Operating Temperature Max: 85°C; Operating Temperature Min: -25°C; Packaging: Tape and Reel; Length: 12mm; Width: 4.4mm; Height: 5.1mm; Number of Pins: 9; Orientation: Vertical; Pitch: 1mm; LCSC Part #: N/A; Supplier 1: Mouser; Supplier 1 Part Number: N/A; Supplier 1 URL: N/A; Supplier 2: Digi-Key; Supplier 2 Part Number: N/A; Supplier 2 URL: N/A; Supplier 3: thegioiic; Supplier 3 Part Number: N/A; Supplier 3 URL: N/A; Value: 686109188822
footprint 686109188822
pins: 1, 2, 3, 4, 5, 6, 7, 8, 9

## 686110148922
designator J?  (value not drawn)
WR-FPC SMT ZIF Horizontal Bottom Contact Hinge Type, pitch 1mm, Horizontal, 10pins; Manufacturer: Wurth Elektronik; Contact Resistance: 50mΩ; Rated Current: 1A; Working Voltage: 100VAC; Withstanding Voltage: 1000VAC; ComponentLink1Description: Datasheet; ComponentLink1URL: https://www.we-online.com/redexpert/spec/686110148922?ad; Manufacturer Part Number: 686110148922; Category: FPC Connectors; Mount: Surface Mount; Operating Temperature Max: 105°C; Operating Temperature Min: -40°C; Packaging: Tape and Reel; Length: 14.6mm; Width: 6.5mm; Height: 2.2mm; Number of Pins: 10; Orientation: Horizontal; Pitch: 1mm; LCSC Part #: N/A; Supplier 1: Mouser; Supplier 1 Part Number: N/A; Supplier 1 URL: N/A; Supplier 2: Digi-Key; Supplier 2 Part Number: N/A; Supplier 2 URL: N/A; Supplier 3: thegioiic; Supplier 3 Part Number: N/A; Supplier 3 URL: N/A; Value: 686110148922
footprint 686110148922
pins: 1, 2, 3, 4, 5, 6, 7, 8, 9, 10, M1, M2

## 686110183422
designator J?  (value not drawn)
WR-FPC SMT ZIF Horizontal Top Contact Low Profile, pitch 1mm, Horizontal, 10pins; Manufacturer: Wurth Elektronik; Contact Resistance: 30mΩ; Rated Current: 0.8A; Working Voltage: 50VAC; Withstanding Voltage: 1000VAC; ComponentLink1Description: Datasheet; ComponentLink1URL: https://www.we-online.com/redexpert/spec/686110183422?ad; Manufacturer Part Number: 686110183422; Category: FPC Connectors; Mount: Surface Mount; Operating Temperature Max: 85°C; Operating Temperature Min: -25°C; Packaging: Tape and Reel; Length: 16.2mm; Width: 4.25mm; Height: 1.2mm; Number of Pins: 10; Orientation: Horizontal; Pitch: 1mm; LCSC Part #: N/A; Supplier 1: Mouser; Supplier 1 Part Number: N/A; Supplier 1 URL: N/A; Supplier 2: Digi-Key; Supplier 2 Part Number: N/A; Supplier 2 URL: N/A; Supplier 3: thegioiic; Supplier 3 Part Number: N/A; Supplier 3 URL: N/A; Value: 686110183422
footprint 686110183422
pins: 1, 2, 3, 4, 5, 6, 7, 8, 9, 10, M1, M2

## 686110183522
designator J?  (value not drawn)
WR-FPC SMT ZIF Horizontal Bottom Contact Low Profile, pitch 1mm, Horizontal, 10pins; Manufacturer: Wurth Elektronik; Contact Resistance: 30mΩ; Rated Current: 0.8A; Working Voltage: 50VAC; Withstanding Voltage: 1000VAC; ComponentLink1Description: Datasheet; ComponentLink1URL: https://www.we-online.com/redexpert/spec/686110183522?ad; Manufacturer Part Number: 686110183522; Category: FPC Connectors; Mount: Surface Mount; Operating Temperature Max: 85°C; Operating Temperature Min: -25°C; Packaging: Tape and Reel; Length: 16.2mm; Width: 4.25mm; Height: 1.2mm; Number of Pins: 10; Orientation: Horizontal; Pitch: 1mm; LCSC Part #: N/A; Supplier 1: Mouser; Supplier 1 Part Number: N/A; Supplier 1 URL: N/A; Supplier 2: Digi-Key; Supplier 2 Part Number: N/A; Supplier 2 URL: N/A; Supplier 3: thegioiic; Supplier 3 Part Number: N/A; Supplier 3 URL: N/A; Value: 686110183522
footprint 686110183522
pins: 1, 2, 3, 4, 5, 6, 7, 8, 9, 10, M1, M2

## 686110183822
designator J?  (value not drawn)
WR-FPC SMT ZIF Vertical Type A, pitch 1mm, Vertical, 10pins; Manufacturer: Wurth Elektronik; Contact Resistance: 30mΩ; Rated Current: 1A; Working Voltage: 125VAC; Withstanding Voltage: 1000VAC; ComponentLink1Description: Datasheet; ComponentLink1URL: https://www.we-online.com/redexpert/spec/686110183822?ad; Manufacturer Part Number: 686110183822; Category: FPC Connectors; Mount: Surface Mount; Operating Temperature Max: 85°C; Operating Temperature Min: -25°C; Packaging: Tape and Reel; Length: 16.8mm; Width: 3.3mm; Height: 3.25mm; Number of Pins: 10; Orientation: Vertical; Pitch: 1mm; LCSC Part #: N/A; Supplier 1: Mouser; Supplier 1 Part Number: N/A; Supplier 1 URL: N/A; Supplier 2: Digi-Key; Supplier 2 Part Number: N/A; Supplier 2 URL: N/A; Supplier 3: thegioiic; Supplier 3 Part Number: N/A; Supplier 3 URL: N/A; Value: 686110183822
footprint 686110183822
pins: 1, 2, 3, 4, 5, 6, 7, 8, 9, 10, M1, M2, M3, M4

## 686110188622
designator J?  (value not drawn)
WR-FPC SMT LIF Horizontal Top Contact, pitch 1mm, Horizontal, 10pins; Manufacturer: Wurth Elektronik; Contact Resistance: 30mΩ; Rated Current: 1A; Working Voltage: 125VAC; Withstanding Voltage: 1000VAC; ComponentLink1Description: Datasheet; ComponentLink1URL: https://www.we-online.com/redexpert/spec/686110188622?ad; Manufacturer Part Number: 686110188622; Category: FPC Connectors; Mount: Surface Mount; Operating Temperature Max: 85°C; Operating Temperature Min: -25°C; Packaging: Tape and Reel; Length: 13.8mm; Width: 6.8mm; Height: 3.1mm; Number of Pins: 10; Orientation: Horizontal; Pitch: 1mm; LCSC Part #: N/A; Supplier 1: Mouser; Supplier 1 Part Number: N/A; Supplier 1 URL: N/A; Supplier 2: Digi-Key; Supplier 2 Part Number: N/A; Supplier 2 URL: N/A; Supplier 3: thegioiic; Supplier 3 Part Number: N/A; Supplier 3 URL: N/A; Value: 686110188622
footprint 686110188622
pins: 1, 2, 3, 4, 5, 6, 7, 8, 9, 10, M1, M2